# Altium footprint library WOLFMAN.PcbLib: 29 footprints (part 2 of 2)
Each footprint in its own frame and in the unit in brackets; x right, y up, seen from the top. Pads: shape width x height; smd on the part's side, far side on the other; paste and mask are expansions set on the pad; w line width, h text height; cw(c..) or ccw(c..) is an arc to the next point about the centre after c.
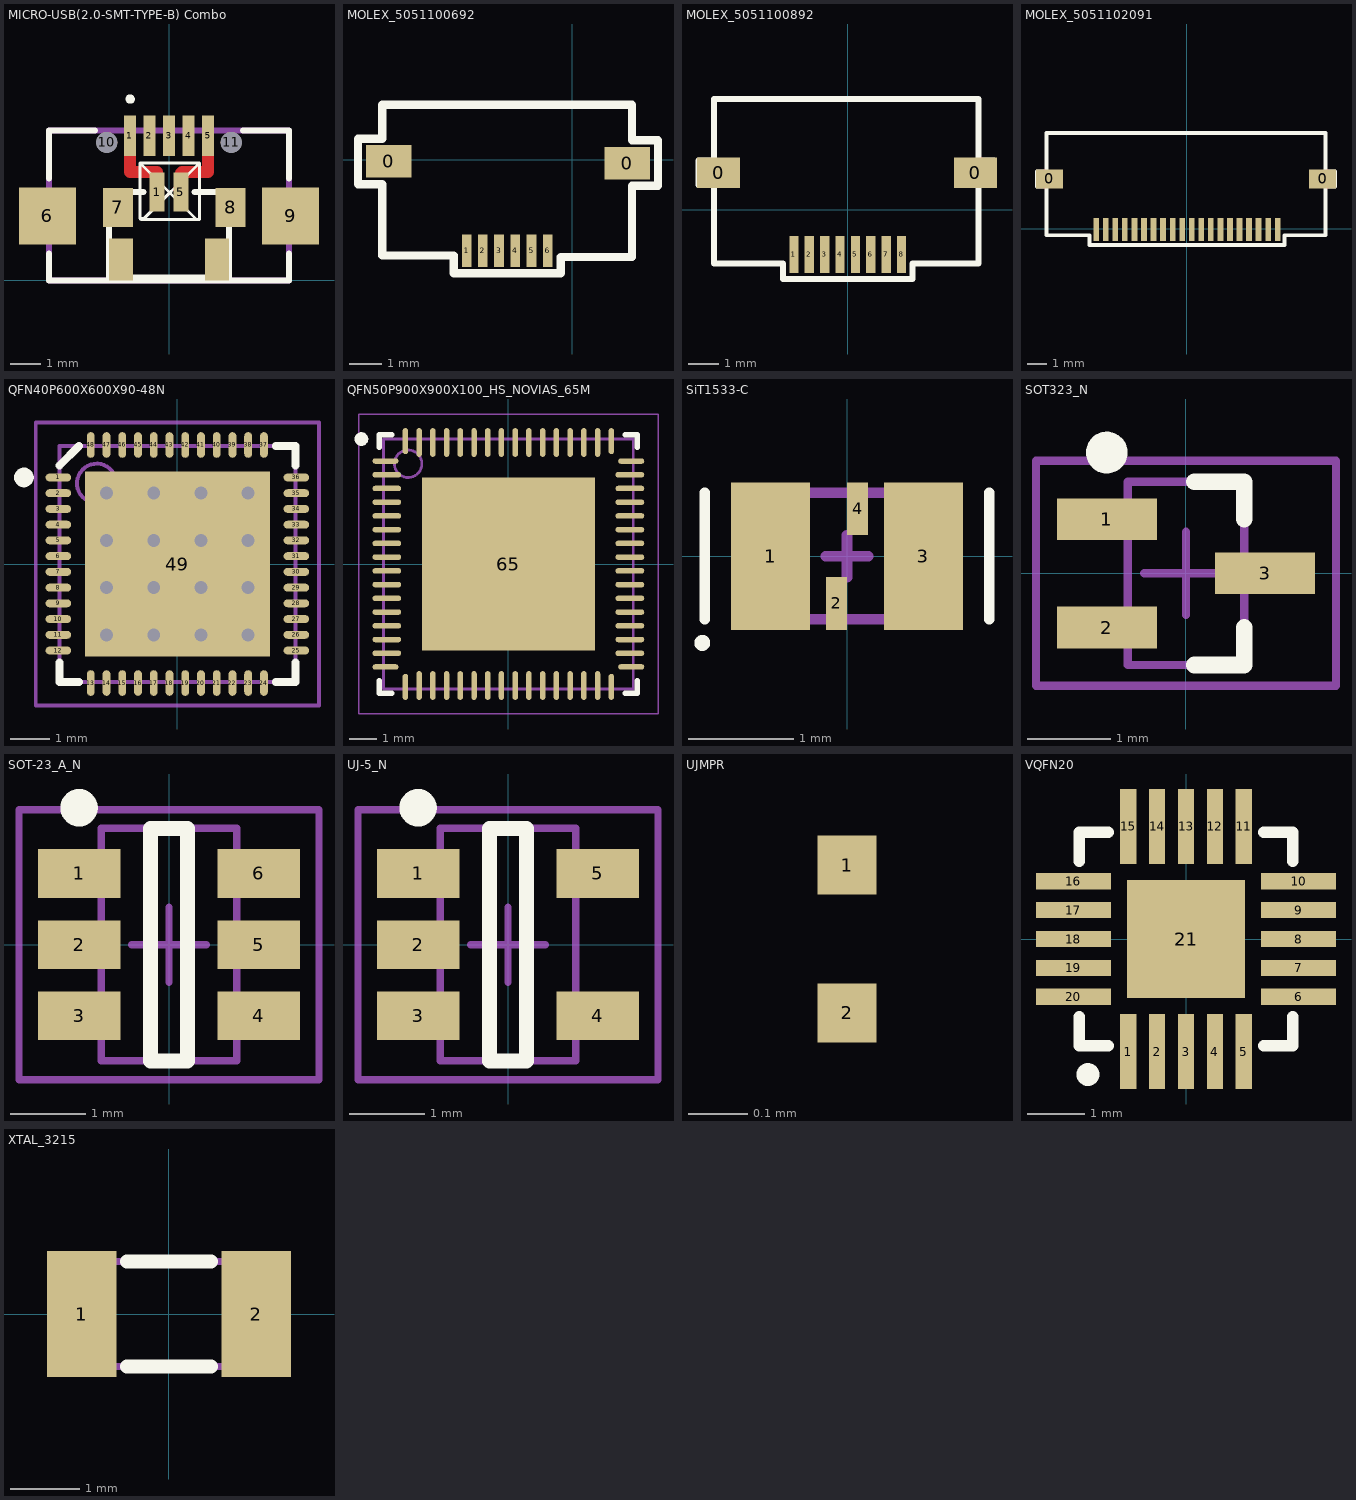
[diagram p1: the footprints below, top view; thin cyan lines are the x and y axes]

## MICRO-USB(2.0-SMT-TYPE-B) Combo [mm]
pads (15):
  rect 0.4x1.35 smd: 1(-1.3,4.825) 2(-0.65,4.825) 3(0,4.825) 4(0.65,4.825) 5(1.3,4.825)
  rect 0.5x1.3 smd: 1(-0.4,2.944) 5(0.4,2.944)
  rect 1.9x1.9 smd: 6(-4.05,2.15) 9(4.05,2.15)
  rect 1x1.3 smd: 7(-1.702,2.438) 8(2.057,2.438)
  round 0.7 hole 0.7: 10(-2.075,4.6) 11(2.075,4.6)
  rect 0.8x1.4 smd: ""(-1.6,0.694) ""(1.6,0.694)
Top Layer:
  lines w0.4: -1.3,4.825 -1.3,3.607 -0.4,3.607 -0.4,3.353 ; 0.4,3.353 0.4,3.575 0.432,3.607 1.3,3.607 1.3,4.825
Top Overlay:
  circle w0.2: c-1.295,6.047 r0.056
  lines w0.1: -0.965,2.057 -0.838,2.057 1.016,3.912 ; -0.965,2.057 -0.965,3.912 ; -0.965,2.057 -0.94,2.032 1.016,2.032 ; -0.965,3.912 0.914,2.032 1.016,2.032 ; -0.965,3.912 1.016,3.912 ; 1.016,2.032 1.016,3.912
  lines w0.2: -4,0.9 -4,0 4,0 4,0.9 ; -4,3.403 -4,5 -2.459,5 ; -2,0.094 -2,2.944 -0.85,2.944 ; -1.95,0.094 2,0.094 2,2.944 0.85,2.944 ; 2.459,5 4,5 4,3.403
Mechanical 13:
  lines w0.2: -4,0 -4,5 4,5 4,0 -4,0
3D body "629105136821_Download_STP_629105136821_rev1.stp": height 2.65, standoff -0.65, extent -4,-0.65 4,5.253

## MOLEX_5051100692 [mm]
pads (8):
  rect 1.4x1 smd: 0(-5.65,-0.05) 0(1.7,-0.1)
  rect 0.3x1 smd: 1(-3.25,-2.8) 2(-2.75,-2.8) 3(-2.25,-2.8) 4(-1.75,-2.8) 5(-1.25,-2.8) 6(-0.75,-2.8)
Top Overlay:
  lines w0.254: -5.9,-0.75 -6.6,-0.75 -6.6,-0.1 -6.6,0.65 -5.85,0.65 -5.85,1.7 -5.15,1.7 1.85,1.7 1.85,0.6 2.65,0.6 2.65,-0.8 1.85,-0.8 1.85,-1.65 1.85,-3 ; -5.85,-0.75 -5.85,-1.75 -5.85,-2.95 -3.65,-2.95 -3.65,-3.5 -0.35,-3.5 -0.35,-3 0.2,-3 1.8,-3
3D body "5051100692.stp": height 1.88, standoff -0.02, extent -6.25,-3 2.25,2.3

## MOLEX_5051100892 [mm]
pads (10):
  rect 1.4x1 smd: 0(-4.2,1.2) 0(4.15,1.2)
  rect 0.3x1.2 smd: 1(-1.75,-1.45) 2(-1.25,-1.45) 3(-0.75,-1.45) 4(-0.25,-1.45) 5(0.25,-1.45) 6(0.75,-1.45) 7(1.25,-1.45) 8(1.75,-1.45)
Top Overlay:
  lines w0.2: -4.85,0.8 -4.35,0.8 -4.35,-1.75 -2.1,-1.75 -2.1,-2.25 2.1,-2.25 2.1,-1.75 4.25,-1.75 4.25,0.8 4.75,0.8 4.75,1.6 4.25,1.6 4.25,3.6 -4.35,3.6 -4.35,1.6 -4.85,1.6 -4.85,0.8
3D body "5051100892.stp": height 1.88, standoff -0.02, extent -4.75,-1.65 4.75,3.65

## MOLEX_5051102091 [mm]
pads (22):
  rect 1.4x1 smd: 0(-7.2,2.6) 0(7.1,2.6)
  rect 0.3x1.2 smd: 1(-4.75,-0.05) 2(-4.25,-0.05) 3(-3.75,-0.05) 4(-3.25,-0.05) 5(-2.75,-0.05) 6(-2.25,-0.05) 7(-1.75,-0.05) 8(-1.25,-0.05) 9(-0.75,-0.05) 10(-0.25,-0.05) 11(0.25,-0.05) 12(0.75,-0.05) 13(1.25,-0.05) 14(1.75,-0.05) 15(2.25,-0.05) 16(2.75,-0.05) 17(3.25,-0.05) 18(3.75,-0.05) 19(4.25,-0.05) 20(4.75,-0.05)
Top Overlay:
  lines w0.2: -7.85,2.2 -7.85,3 -7.35,3 -7.35,5 7.25,5 7.25,3 7.75,3 7.75,2.2 7.25,2.2 7.25,-0.35 5.1,-0.35 5.1,-0.85 -5.1,-0.85 -5.1,-0.35 -7.35,-0.35 -7.35,2.2 -7.85,2.2
3D body "5051102091.stp": height 1.88, standoff -0.02, extent -7.75,-0.3 7.75,5

## QFN40P600X600X90-48N [mm]
pads (49):
  oval 0.65x0.2 smd: 1(-3.025,2.2) 2(-3.025,1.8) 3(-3.025,1.4) 4(-3.025,1) 5(-3.025,0.6) 6(-3.025,0.2) 7(-3.025,-0.2) 8(-3.025,-0.6) 9(-3.025,-1) 10(-3.025,-1.4) 11(-3.025,-1.8) 12(-3.025,-2.2) 25(3.025,-2.2) 26(3.025,-1.8) 27(3.025,-1.4) 28(3.025,-1) 29(3.025,-0.6) 30(3.025,-0.2) 31(3.025,0.2) 32(3.025,0.6) 33(3.025,1) 34(3.025,1.4) 35(3.025,1.8) 36(3.025,2.2)
  oval 0.2x0.65 smd: 13(-2.2,-3.025) 14(-1.8,-3.025) 15(-1.4,-3.025) 16(-1,-3.025) 17(-0.6,-3.025) 18(-0.2,-3.025) 19(0.2,-3.025) 20(0.6,-3.025) 21(1,-3.025) 22(1.4,-3.025) 23(1.8,-3.025) 24(2.2,-3.025) 37(2.2,3.025) 38(1.8,3.025) 39(1.4,3.025) 40(1,3.025) 41(0.6,3.025) 42(0.2,3.025) 43(-0.2,3.025) 44(-0.6,3.025) 45(-1,3.025) 46(-1.4,3.025) 47(-1.8,3.025) 48(-2.2,3.025)
  rect 4.7x4.7 smd: 49(0,0)
via -0.6,-1.8 diameter 0.66 hole 0.33
via -1.8,-0.6 diameter 0.66 hole 0.33
via -0.6,-0.6 diameter 0.66 hole 0.33
via -1.8,-1.8 diameter 0.66 hole 0.33
via 0.6,0.6 diameter 0.66 hole 0.33
via 1.8,0.6 diameter 0.66 hole 0.33
via 0.6,-0.6 diameter 0.66 hole 0.33
via 1.8,-1.8 diameter 0.66 hole 0.33
via 1.8,-0.6 diameter 0.66 hole 0.33
via -0.6,0.6 diameter 0.66 hole 0.33
via -1.8,0.6 diameter 0.66 hole 0.33
via 0.6,-1.8 diameter 0.66 hole 0.33
via 0.6,1.8 diameter 0.66 hole 0.33
via -0.6,1.8 diameter 0.66 hole 0.33
via -1.8,1.8 diameter 0.66 hole 0.33
via 1.8,1.8 diameter 0.66 hole 0.33
Top Overlay:
  circle w0.25: c-3.9,2.2 r0.125
  lines w0.2: -3,-2.5 -3,-3 -2.5,-3 ; -3,2.5 -2.5,3 ; 2.5,-3 3,-3 3,-2.5 ; 2.5,3 3,3 3,2.5
Mechanical 13:
  circle w0.1: c-2.05,2.05 r0.5
  lines w0.1: -3,-3 -3,3 3,3 3,-3 -3,-3
Mechanical 15:
  lines w0.1: -0.5,0 0.5,0 ; 0,-0.5 0,0.5 ; -3.6,-3.6 -3.6,3.6 3.6,3.6 3.6,-3.6 -3.6,-3.6
3D body "User Library-QFN48.step": height 0.86, standoff -0.01, extent -3.02,-3.02 3.02,3.02

## QFN50P900X900X100_HS_NOVIAS_65M [mm]
pads (65):
  oval 0.95x0.2 smd: 1(-4.475,3.75) 16(-4.475,-3.75) 33(4.475,-3.75) 48(4.475,3.75)
  oval 1.05x0.2 smd: 2(-4.425,3.25) 3(-4.425,2.75) 4(-4.425,2.25) 5(-4.425,1.75) 6(-4.425,1.25) 7(-4.425,0.75) 8(-4.425,0.25) 9(-4.425,-0.25) 10(-4.425,-0.75) 11(-4.425,-1.25) 12(-4.425,-1.75) 13(-4.425,-2.25) 14(-4.425,-2.75) 15(-4.425,-3.25) 34(4.425,-3.25) 35(4.425,-2.75) 36(4.425,-2.25) 37(4.425,-1.75) 38(4.425,-1.25) 39(4.425,-0.75) 40(4.425,-0.25) 41(4.425,0.25) 42(4.425,0.75) 43(4.425,1.25) 44(4.425,1.75) 45(4.425,2.25) 46(4.425,2.75) 47(4.425,3.25)
  oval 0.2x0.95 smd: 17(-3.75,-4.475) 32(3.75,-4.475) 49(3.75,4.475) 64(-3.75,4.475)
  oval 0.2x1.05 smd: 18(-3.25,-4.425) 19(-2.75,-4.425) 20(-2.25,-4.425) 21(-1.75,-4.425) 22(-1.25,-4.425) 23(-0.75,-4.425) 24(-0.25,-4.425) 25(0.25,-4.425) 26(0.75,-4.425) 27(1.25,-4.425) 28(1.75,-4.425) 29(2.25,-4.425) 30(2.75,-4.425) 31(3.25,-4.425) 50(3.25,4.425) 51(2.75,4.425) 52(2.25,4.425) 53(1.75,4.425) 54(1.25,4.425) 55(0.75,4.425) 56(0.25,4.425) 57(-0.25,4.425) 58(-0.75,4.425) 59(-1.25,4.425) 60(-1.75,4.425) 61(-2.25,4.425) 62(-2.75,4.425) 63(-3.25,4.425)
  rect 6.3x6.3 smd: 65(0,0)
Top Overlay:
  circle w0.25: c-5.35,4.55 r0.125
  lines w0.2: -4.7,-4.25 -4.7,-4.7 -4.25,-4.7 ; -4.7,4.25 -4.7,4.7 -4.25,4.7 ; 4.25,-4.7 4.7,-4.7 4.7,-4.25 ; 4.25,4.7 4.7,4.7 4.7,4.25
Mechanical 13:
  circle w0.1: c-3.65,3.65 r0.5
  lines w0.1: -4.55,-4.55 4.55,-4.55 4.55,4.55 -4.55,4.55 -4.55,-4.55
Mechanical 15:
  lines w0.05: -5.45,-5.45 5.45,-5.45 5.45,5.45 -5.45,5.45 -5.45,-5.45
3D body "QFN50P900X900X100_HS-65M.step": height 1, standoff 0, extent -4.6,-4.6 4.6,4.6

## SiT1533-C [mm]
pads (4):
  rect 0.75x1.4 smd: 1(-0.725,0) 3(0.725,0)
  rect 0.2x0.5 smd: 2(-0.1,-0.45) 4(0.1,0.45)
Top Overlay:
  circle w0.1: c-1.375,-0.825 r0.025
  lines w0.1: -1.35,-0.6 -1.35,0.6 ; 1.35,-0.6 1.35,0.6
Mechanical 15:
  lines w0.1: -0.2,0 0.2,0 ; 0,-0.2 0,0.2 ; -1,-0.6 -1,0.6 1,0.6 1,-0.6 -1,-0.6
3D body: height 0.55, standoff 0, extent -0.999,-0.599 0.999,0.599

## SOT323_N [mm]
pads (3):
  rect 1.2x0.5 smd: 1(-0.95,0.65) 2(-0.95,-0.65) 3(0.95,0)
Top Overlay:
  circle w0.25: c-0.95,1.45 r0.125
  lines w0.2: 0.1,-1.1 0.7,-1.1 0.7,-0.65 ; 0.1,1.1 0.7,1.1 0.7,0.65
Mechanical 13:
  lines w0.1: -0.7,-1.1 -0.7,1.1 0.7,1.1 0.7,-1.1 -0.7,-1.1
Mechanical 15:
  lines w0.1: -0.5,0 0.5,0 ; 0,-0.5 0,0.5 ; -1.8,-1.35 -1.8,1.35 1.8,1.35 1.8,-1.35 -1.8,-1.35
3D body: height 1.1, standoff 0, extent -0.7,-1.1 0.7,1.1

## SOT-23_A_N [mm]
pads (6):
  rect 1.1x0.65 smd: 1(-1.2,0.95) 2(-1.2,0) 3(-1.2,-0.95) 4(1.2,-0.95) 5(1.2,0) 6(1.2,0.95)
Top Overlay:
  circle w0.25: c-1.2,1.825 r0.125
  lines w0.2: -0.25,-1.55 -0.25,1.55 0.25,1.55 0.25,-1.55 -0.25,-1.55
Mechanical 13:
  lines w0.1: -0.9,-1.55 0.9,-1.55 0.9,1.55 -0.9,1.55 -0.9,-1.55
Mechanical 15:
  lines w0.1: -0.5,0 0.5,0 ; 0,-0.5 0,0.5 ; -2,-1.8 2,-1.8 2,1.8 -2,1.8 -2,-1.8
3D body: height 1.45, standoff 0, extent -0.9,-1.55 0.9,1.55

## UJ-5_N [mm]
pads (5):
  rect 1.1x0.65 smd: 1(-1.2,0.95) 2(-1.2,0) 3(-1.2,-0.95) 4(1.2,-0.95) 5(1.2,0.95)
Top Overlay:
  circle w0.25: c-1.2,1.825 r0.125
  lines w0.2: -0.25,-1.55 0.25,-1.55 0.25,1.55 -0.25,1.55 -0.25,-1.55
Mechanical 13:
  lines w0.1: -0.9,-1.55 -0.9,1.55 0.9,1.55 0.9,-1.55 -0.9,-1.55
Mechanical 15:
  lines w0.1: -0.5,0 0.5,0 ; 0,-0.5 0,0.5 ; -2,-1.8 -2,1.8 2,1.8 2,-1.8 -2,-1.8
3D body: height 1, standoff 0, extent -0.9,-1.55 0.9,1.55

## UJMPR [mm]
pads (2):
  rect 0.1x0.1 smd: 1(-31.3,19.55) 2(-31.3,19.3)

## VQFN20 [mm]
pads (21):
  rect 0.28x1.3 smd: 1(-1,-1.95) 2(-0.5,-1.95) 3(0,-1.95) 4(0.5,-1.95) 5(1,-1.95) 11(1,1.95) 12(0.5,1.95) 13(0,1.95) 14(-0.5,1.95) 15(-1,1.95)
  rect 1.3x0.28 smd: 6(1.95,-1) 7(1.95,-0.5) 8(1.95,0) 9(1.95,0.5) 10(1.95,1) 16(-1.95,1) 17(-1.95,0.5) 18(-1.95,0) 19(-1.95,-0.5) 20(-1.95,-1)
  rect 2.05x2.05 smd: 21(0,0)
Top Overlay:
  circle w0.254: c-1.7,-2.35 r0.071
  lines w0.2: -1.85,-1.35 -1.85,-1.85 -1.35,-1.85 ; -1.85,1.35 -1.85,1.85 -1.35,1.85 ; 1.35,-1.85 1.85,-1.85 1.85,-1.35 ; 1.35,1.85 1.85,1.85 1.85,1.35
3D body "RGR0020A.stp": height 1, standoff 0, extent -1.75,-1.75 1.75,1.75

## XTAL_3215 [mm]
pads (2):
  rect 1x1.8 smd: 1(-1.25,0) 2(1.25,0)
Top Overlay:
  lines w0.2: -0.6,-0.75 0.6,-0.75 ; -0.6,0.75 0.6,0.75
Mechanical 7:
  lines w0.1: -1.6,-0.75 -1.6,0.75 1.6,0.75 1.6,-0.75 -1.6,-0.75
  text ".Designator" at -0.28,-0.187 h0.3
Mechanical 15:
  lines w0.1: -1.6,-0.55 cw(c-1.6,-0.75) -1.4,-0.75 1.4,-0.75 cw(c1.6,-0.75) 1.6,-0.55 1.6,0.55 cw(c1.6,0.75) 1.4,0.75 -1.4,0.75 cw(c-1.6,0.75) -1.6,0.55 -1.6,-0.55
3D body: height 0.81, standoff 0.15, extent -1.2,-0.6 1.2,0.6
3D body "User Library-Siward_SX3215.step": height 0.81, standoff 0, extent -1.6,-0.75 1.6,0.75